# Altium schematic symbol library DIODE_BIDIR.SchLib: 1 symbol
Pins are listed as number, name and electrical type; pins without a type are passive.

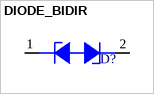
[diagram p0: symbol DIODE_BIDIR]

## DIODE_BIDIR
designator D?
DIODE BIDIR 1-LINE ESD PROT 0.4pF 6V 2.5A AEC-Q101 SOD882
pins: 1 C1, 2 C2